# Altium footprint library solidstate-power.PcbLib: 19 footprints (part 2 of 2)
Each footprint in its own frame and in the unit in brackets; x right, y up, seen from the top. Pads: shape width x height; smd on the part's side, far side on the other; paste and mask are expansions set on the pad; w line width, h text height; cw(c..) or ccw(c..) is an arc to the next point about the centre after c.
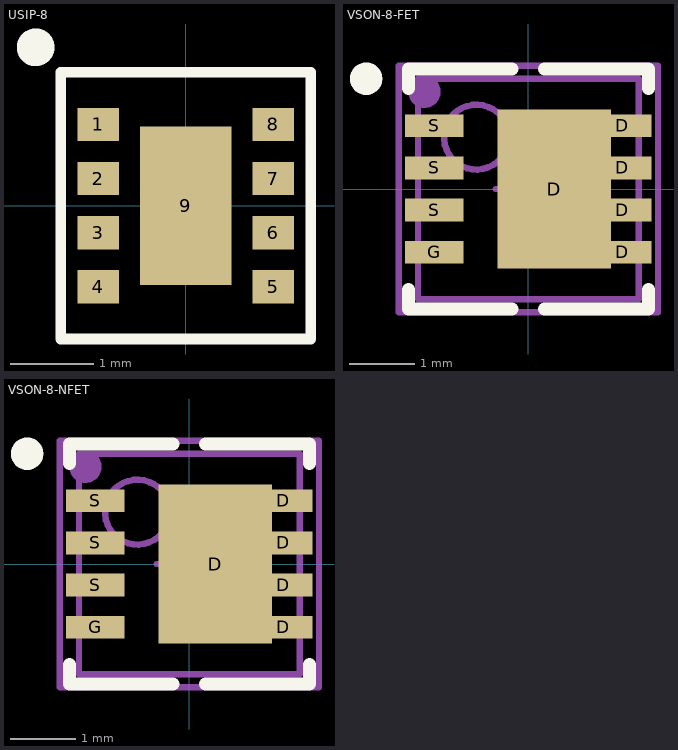
[diagram p1: the footprints below, top view; thin cyan lines are the x and y axes]

## USIP-8 [mm]
pads (9):
  rect 0.5x0.4 smd: 1(-1.05,0.975) 2(-1.05,0.325) 3(-1.05,-0.325) 4(-1.05,-0.975) 5(1.05,-0.975) 6(1.05,-0.325) 7(1.05,0.325) 8(1.05,0.975)
  rect 1.1x1.9 smd: 9(0,0)
Top Overlay:
  circle w0.254: c-1.8,1.9 r0.1
  lines w0.127: -1.5,-1.6 1.5,-1.6 1.5,1.6 -1.5,1.6 -1.5,-1.6
3D body "INDC2520X10N.step": height 1.5, standoff 0.5, extent -1,-1.25 1,1.25
3D body: height 0.51, standoff 0.5, extent -1.4,1.3 -1.1,1.5
3D body: height 0.5, standoff 0, extent -1.4,-1.5 1.4,1.5

## VSON-8-FET [mm] "QFN, 8-Leads, Body 3.30x3.30mm, Pitch 0.65mm, IPC High Density"
height 1.1
pads (9):
  rect 1.75x2.45 smd: D(0.4,0)
  rect 0.9x0.35 smd: D(1.45,-0.975) D(1.45,-0.325) D(1.45,0.325) D(1.45,0.975) G(-1.45,-0.975) S(-1.45,-0.325) S(-1.45,0.325) S(-1.45,0.975)
Top Overlay:
  circle w0.25: c-2.5,1.7 r0.125
  lines w0.2: -1.85,-1.55 -1.85,-1.85 -0.25,-1.85 ; -1.85,1.55 -1.85,1.85 -0.25,1.85 ; 0.25,-1.85 1.85,-1.85 1.85,-1.55 ; 0.25,1.85 1.85,1.85 1.85,1.55
Mechanical 12:
  lines w0.1: -0.5,0 0.5,0 ; 0,-0.5 0,0.5 ; -2,-1.9 2,-1.9 2,1.9 -2,1.9 -2,-1.9
Mechanical 13:
  circle w0.1: c-0.8,0.8 r0.5
  lines w0.1: -1.7,-1.7 -1.7,1.7 1.7,1.7 1.7,-1.7 -1.7,-1.7
Mechanical 15:
  circle w0.25: c-1.6,1.5 r0.125
  lines w0.1: -2,-1.9 -2,1.9 2,1.9 2,-1.9 -2,-1.9
  text ".Designator" at -1.7,-1.6 h1
3D body "QFN65P330X330X110-8L.step": height 1.1, standoff 0, extent -1.75,-1.7 1.75,1.7

## VSON-8-NFET [mm] "QFN, 8-Leads, Body 3.30x3.30mm, Pitch 0.65mm, IPC High Density"
height 1.1
pads (9):
  rect 1.75x2.45 smd: D(0.4,0)
  rect 0.9x0.35 smd: D(1.45,-0.975) D(1.45,-0.325) D(1.45,0.325) D(1.45,0.975) G(-1.45,-0.975) S(-1.45,-0.325) S(-1.45,0.325) S(-1.45,0.975)
Top Overlay:
  circle w0.25: c-2.5,1.7 r0.125
  lines w0.2: -1.85,-1.55 -1.85,-1.85 -0.25,-1.85 ; -1.85,1.55 -1.85,1.85 -0.25,1.85 ; 0.25,-1.85 1.85,-1.85 1.85,-1.55 ; 0.25,1.85 1.85,1.85 1.85,1.55
Mechanical 12:
  lines w0.1: -0.5,0 0.5,0 ; 0,-0.5 0,0.5 ; -2,-1.9 2,-1.9 2,1.9 -2,1.9 -2,-1.9
Mechanical 13:
  circle w0.1: c-0.8,0.8 r0.5
  lines w0.1: -1.7,-1.7 -1.7,1.7 1.7,1.7 1.7,-1.7 -1.7,-1.7
Mechanical 15:
  circle w0.25: c-1.6,1.5 r0.125
  lines w0.1: -2,-1.9 -2,1.9 2,1.9 2,-1.9 -2,-1.9
  text ".Designator" at -1.7,-1.6 h1
3D body "QFN65P330X330X110-8L.step": height 1.1, standoff 0, extent -1.75,-1.7 1.75,1.7